# Altium footprint library NRS5020T4R7MMGJ.PcbLib: 1 footprints
Each footprint in its own frame and in the unit in brackets; x right, y up, seen from the top. Pads: shape width x height; smd on the part's side, far side on the other; paste and mask are expansions set on the pad; w line width, h text height; cw(c..) or ccw(c..) is an arc to the next point about the centre after c.
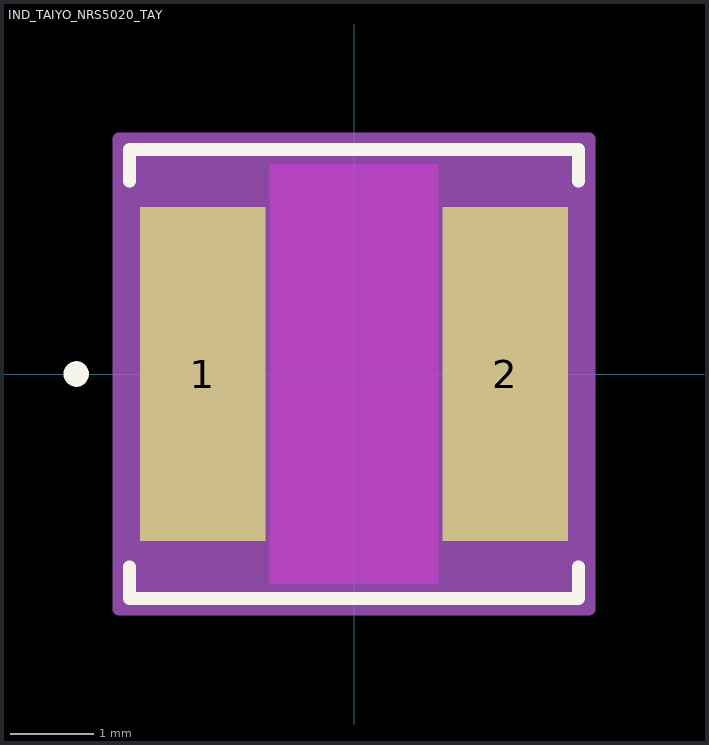
[diagram p0: the footprint, top view; thin cyan lines are the x and y axes]

## IND_TAIYO_NRS5020_TAY [mil]
pads (2):
  rect 59x157 smd paste+0 mask+0: 1(-71,0) 2(71,0)
Top Layer keep-out:
  region: -39.5,-98.5 -39.5,98.5 39.5,98.5 39.5,-98.5
Top Overlay:
  circle w6: c-130.5,0 r3
  lines w6: -105.5,-90.61 -105.5,-105.5 105.5,-105.5 105.5,-90.61 ; -105.5,90.61 -105.5,105.5 105.5,105.5 105.5,90.61
Mechanical 13:
  circle w0: c-97.5,0 r3
  lines w1: -100.5,-100.5 100.5,-100.5 100.5,100.5 -100.5,100.5 -100.5,-100.5
Mechanical 15:
  region: -110.5,-88.5 -110.5,88.5 -110.5,110.5 110.5,110.5 110.5,88.5 110.5,-88.5 110.5,-110.5 -110.5,-110.5
  lines w6: -110.5,-88.5 -110.5,88.5 ; -110.5,-88.5 -110.5,-88.5 ; -110.5,-88.5 -110.5,-110.5 110.5,-110.5 110.5,-88.5 ; -110.5,88.5 -110.5,88.5 ; -110.5,88.5 -110.5,110.5 110.5,110.5 110.5,88.5 ; 110.5,-88.5 110.5,88.5 ; 110.5,-88.5 110.5,-88.5 ; 110.5,88.5 110.5,88.5
3D body "IND_TAIYO_NRS5020_TAY.step": height 79.02, standoff 0, extent -100.51,-100.59 100.51,100.59